# EAGLE library part 74VHC125MTCX (library OPL)
Quad Buffer/Line Driver;3-state
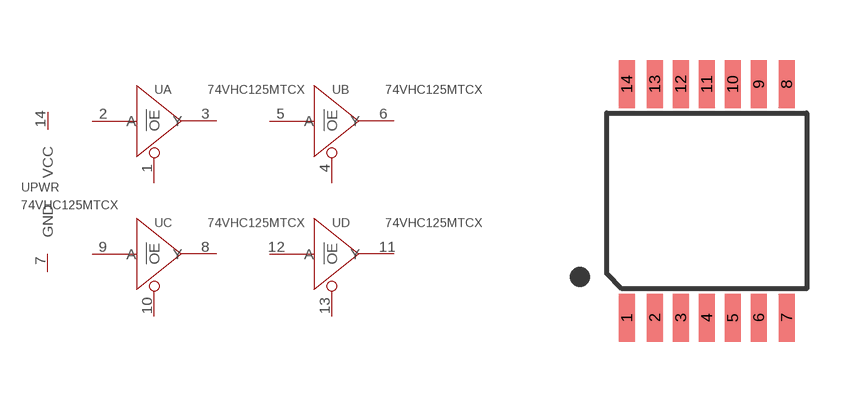
[diagram p19: symbol with the pads of TSSOP-14; footprint TSSOP-14]

Designator prefix U; gates A=BUFFER PWR=VCC-GND-1 B=BUFFER C=BUFFER D=BUFFER

## 74VHC125MTCXHC-310050042, 74VHC125MTCXHCT-310050042  [TSSOP-14]
1  A:!OE
2  A:A
3  A:Y
4  B:!OE
5  B:A
6  B:Y
7  PWR:GND  sup
8  C:Y
9  C:A
10  C:!OE
11  D:Y
12  D:A
13  D:!OE
14  PWR:VCC  sup

## Footprint TSSOP-14 (pad centres in mm)
smd 0.4 x 1.2: 1 -2,-2.925; 2 -1.3,-2.925; 3 -0.65,-2.925; 4 0,-2.925; 5 0.65,-2.925; 6 1.3,-2.925; 7 2,-2.925; 8 2,2.925; 9 1.3,2.925; 10 0.65,2.925; 11 0,2.925; 12 -0.65,2.925; 13 -1.3,2.925; 14 -2,2.925